# Altium footprint library Con DIN Circular.PcbLib: 41 footprints (part 2 of 3)
Each footprint in its own frame and in the unit in brackets; x right, y up, seen from the top. Pads: shape width x height; smd on the part's side, far side on the other; paste and mask are expansions set on the pad; w line width, h text height; cw(c..) or ccw(c..) is an arc to the next point about the centre after c.
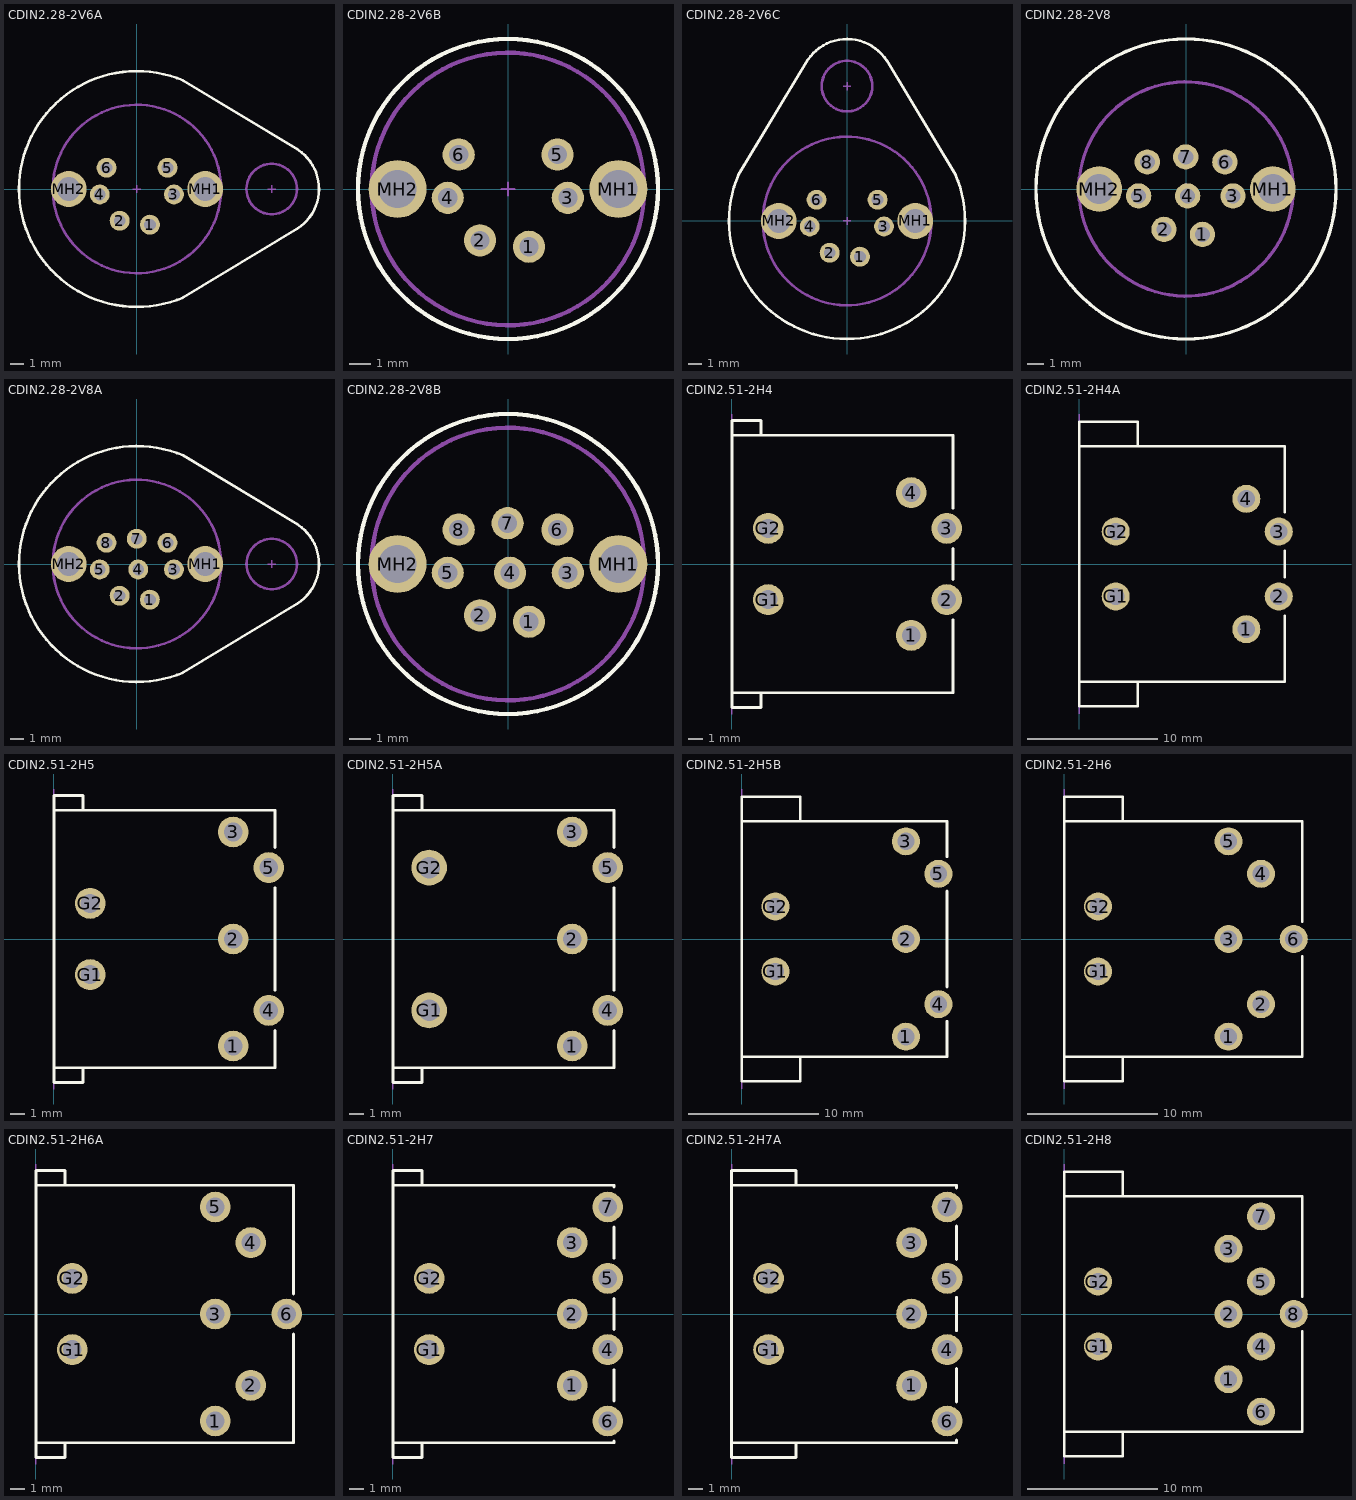
[diagram p1: the footprints below, top view; thin cyan lines are the x and y axes]

## CDIN2.28-2V6A [mm] "Connector; Circular DIN, Thru-Hole; 6 Position; Vertical; Diameter 17.78 mm, Shielded, Front panel grounding, Front panel screw-down"
height 9.52
pads (8):
  round 1.5 hole 0.89: 1(0.975,-2.69) 2(-1.305,-2.39) 3(2.785,-0.41) 4(-2.805,-0.41) 5(2.305,1.6) 6(-2.295,1.6)
  round 2.7 hole 1.78: MH1(5.145,0) MH2(-5.145,0)
Top Overlay:
  lines w0.2: 3.467,8.184 ccw(c-0.005,0) 3.468,-8.183 12.099,-2.982 ccw(c10.172,0) 12.151,2.947 3.467,8.184
Mechanical 1:
  circle w0.2: c-0.005,0 r6.35
  circle w0.2: c10.155,0 r1.905
  lines w0.1: -0.305,0 0.295,0 ; -0.005,-0.3 -0.005,0.3 ; 9.855,-0.02 10.455,0 ; 10.155,-0.3 10.155,0.3
  text "Panel Cut-out" at -2.4,3.8 h0.5
  text "Recommended" at -2.4,4.7 h0.5

## CDIN2.28-2V6B [mm] "Connector; Circular DIN, Thru-Hole; 6 Position; Vertical; Diameter 13.97 mm"
height 9.52
pads (8):
  round 1.5 hole 0.89: 1(0.975,-2.69) 2(-1.305,-2.39) 3(2.785,-0.41) 4(-2.805,-0.41) 5(2.305,1.6) 6(-2.295,1.6)
  round 2.7 hole 1.78: MH1(5.145,0) MH2(-5.145,0)
Top Overlay:
  circle w0.2: c0,0 r6.985
Mechanical 1:
  circle w0.2: c0,0 r6.35
  lines w0.1: -0.3,0 0.3,0 ; 0,-0.3 0,0.3
  text "Panel Cut-out" at -2.4,3.8 h0.5
  text "Recommended" at -2.4,4.7 h0.5

## CDIN2.28-2V6C [mm] "Connector; Circular DIN, Thru-Hole; 6 Position; Vertical; Diameter 17.78 mm, Shielded, Front panel grounding, Front panel screw-down, Special PCB Retention"
height 9.52
pads (8):
  round 1.5 hole 0.89: 1(0.975,-2.69) 2(-1.305,-2.39) 3(2.785,-0.41) 4(-2.805,-0.41) 5(2.305,1.6) 6(-2.295,1.6)
  round 2.7 hole 1.78: MH1(5.145,0) MH2(-5.145,0)
Top Overlay:
  lines w0.2: -8.184,3.467 -2.947,12.151 ; -8.165,3.516 ccw(c0,0) 8.167,3.513 ; -2.947,12.139 cw(c0,10.16) 2.982,12.087 ; 2.982,12.099 8.183,3.468
Mechanical 1:
  circle w0.2: c0,0 r6.35
  circle w0.2: c0,10.16 r1.905
  lines w0.1: -0.3,0 0.3,0 ; -0.3,10.16 0.3,10.16 ; 0,-0.3 0,0.3 ; 0,9.86 0,10.46
  text "Panel Cut-out" at -2.4,3.8 h0.5
  text "Recommended" at -2.4,4.7 h0.5

## CDIN2.28-2V8 [mm] "Connector; Circular DIN, Thru-Hole; 8 Position; Vertical; Diameter 17.78 mm, Shielded"
height 9.52
pads (10):
  round 1.5 hole 0.89: 1(0.975,-2.69) 2(-1.305,-2.39) 3(2.785,-0.41) 4(0.095,-0.41) 5(-2.805,-0.41) 6(2.305,1.6) 7(-0.015,1.9) 8(-2.295,1.6)
  round 2.7 hole 1.78: MH1(5.145,0) MH2(-5.145,0)
Top Overlay:
  circle w0.2: c0,0 r8.89
Mechanical 1:
  circle w0.2: c0,0 r6.35
  lines w0.1: -0.3,0 0.3,0 ; 0,-0.3 0,0.3
  text "Panel Cut-out" at -2.4,3.8 h0.5
  text "Recommended" at -2.4,4.7 h0.5

## CDIN2.28-2V8A [mm] "Connector; Circular DIN, Thru-Hole; 8 Position; Vertical; Diameter 17.78 mm, Shielded, Front panel grounding, Front panel screw-down"
height 9.52
pads (10):
  round 1.5 hole 0.89: 1(0.975,-2.69) 2(-1.305,-2.39) 3(2.785,-0.41) 4(0.095,-0.41) 5(-2.805,-0.41) 6(2.305,1.6) 7(-0.015,1.9) 8(-2.295,1.6)
  round 2.7 hole 1.78: MH1(5.145,0) MH2(-5.145,0)
Top Overlay:
  lines w0.2: 3.472,8.184 ccw(c0,0) 3.473,-8.183 12.099,-2.982 ccw(c10.172,0) 12.151,2.947 3.472,8.184
Mechanical 1:
  circle w0.2: c0,0 r6.35
  circle w0.2: c10.16,0 r1.9
  lines w0.1: -0.3,0 0.3,0 ; 0,-0.3 0,0.3 ; 9.86,0 10.46,0 ; 10.16,-0.3 10.16,0.3
  text "Panel Cut-out" at -2.4,3.8 h0.5
  text "Recommended" at -2.4,4.7 h0.5

## CDIN2.28-2V8B [mm] "Connector; Circular DIN, Thru-Hole; 8 Position; Vertical; Diameter 13.97 mm"
height 9.52
pads (10):
  round 1.5 hole 0.89: 1(0.975,-2.69) 2(-1.305,-2.39) 3(2.785,-0.41) 4(0.095,-0.41) 5(-2.805,-0.41) 6(2.305,1.6) 7(-0.015,1.9) 8(-2.295,1.6)
  round 2.7 hole 1.78: MH1(5.145,0) MH2(-5.145,0)
Top Overlay:
  circle w0.2: c0,0 r6.985
Mechanical 1:
  circle w0.2: c0,0 r6.35
  lines w0.1: -0.3,0 0.3,0 ; 0,-0.3 0,0.3
  text "Recommended" at -2.4,4.7 h0.5
  text "Panel Cut-out" at -2.4,3.8 h0.5

## CDIN2.51-2H4 [mm] "Connector; Circular DIN, Thru-Hole; 4 Position; Right Angle; Pitch 2.49/2.51 mm; Body 18.03 x 15.49 x 20.83 mm (WxTxH)"
height 20.83
pads (6):
  round 2.15 hole 1.32: 1(12.55,-5) 2(15.04,-2.49) 3(15.04,2.49) 4(12.55,5) G1(2.54,-2.49) G2(2.54,2.49)
Top Overlay:
  lines w0.2: 2.03,-9.015 2.03,-10.035 0,-10.035 0,-9.015 ; 2.03,9.015 2.03,10.035 0,10.035 0,9.015 ; 15.49,-3.9 15.49,-9.015 0,-9.015 ; 15.49,-1.08 15.49,1.08 ; 15.49,3.9 15.49,9.015 0,9.015 ; 0,-9.015 0,9.015
Mechanical 1:
  lines w0.1: 0,-10.5 0,10.5
  text "PCB Edge" at 0.6,-8.6 h0.25

## CDIN2.51-2H4A [mm] "Connector; Circular DIN, Thru-Hole; 4 Position; Right Angle; Pitch 2.49/2.51 mm; Body 18.03 x 15.75 x 20.83 mm (WxTxH), Shielded"
height 20.83
pads (6):
  round 2.15 hole 1.32: 1(12.81,-5) 2(15.3,-2.49) 3(15.3,2.49) 4(12.81,5) G1(2.8,-2.49) G2(2.8,2.49)
Top Overlay:
  lines w0.2: 4.5,-9.015 4.5,-10.92 0,-10.92 0,-9.015 ; 4.5,9.015 4.5,10.92 0,10.92 0,9.015 ; 15.75,-3.965 15.75,-9.015 0,-9.015 ; 15.75,-1.015 15.75,1.015 ; 15.75,3.965 15.75,9.015 0,9.015 ; 0,-9.015 0,9.015
Mechanical 1:
  lines w0.1: 0,-11.5 0,11.5
  text "PCB Edge" at 0.6,-8.6 h0.25

## CDIN2.51-2H5 [mm] "Connector; Circular DIN, Thru-Hole; 5 Position; Right Angle; Pitch 2.49/2.51 mm; Body 18.03 x 15.49 x 20.83 mm (WxTxH)"
height 20.83
pads (7):
  round 2.15 hole 1.32: 1(12.55,-7.49) 2(12.55,0) 3(12.55,7.49) 4(15.04,-5) 5(15.04,5) G1(2.54,-2.49) G2(2.54,2.49)
Top Overlay:
  lines w0.2: 2.03,-9.015 2.03,-10.035 0,-10.035 0,-9.015 ; 2.03,9.015 2.03,10.035 0,10.035 0,9.015 ; 15.49,-6.41 15.49,-9.015 0,-9.015 ; 15.49,-3.59 15.49,3.59 ; 15.49,6.41 15.49,9.015 0,9.015 ; 0,-9.015 0,9.015
Mechanical 1:
  lines w0.1: 0,-10.5 0,10.5
  text "PCB Edge" at 0.6,-8.6 h0.25

## CDIN2.51-2H5A [mm] "Connector; Circular DIN, Thru-Hole; 5 Position; Right Angle; Pitch 2.49/2.51 mm; Body 18.03 x 15.49 x 20.83 mm (WxTxH)"
height 20.83
pads (7):
  round 2.15 hole 1.32: 1(12.55,-7.49) 2(12.55,0) 3(12.55,7.49) 4(15.04,-5) 5(15.04,5)
  round 2.5 hole 1.5: G1(2.54,-5) G2(2.54,5)
Top Overlay:
  lines w0.2: 2.03,-9.015 2.03,-10.035 0,-10.035 0,-9.015 ; 2.03,9.015 2.03,10.035 0,10.035 0,9.015 ; 15.49,-6.41 15.49,-9.015 0,-9.015 ; 15.49,-3.59 15.49,3.59 ; 15.49,6.41 15.49,9.015 0,9.015 ; 0,-9.015 0,9.015
Mechanical 1:
  lines w0.1: 0,-10.5 0,10.5
  text "PCB Edge" at 0.6,-8.6 h0.25

## CDIN2.51-2H5B [mm] "Connector; Circular DIN, Thru-Hole; 5 Position; Right Angle; Pitch 2.49/2.51 mm; Body 18.03 x 15.75 x 20.83 mm (WxTxH), Shielded"
height 20.83
pads (7):
  round 2.15 hole 1.32: 1(12.6,-7.49) 2(12.6,0) 3(12.6,7.49) 4(15.09,-5) 5(15.09,5) G1(2.59,-2.49) G2(2.59,2.49)
Top Overlay:
  lines w0.2: 4.5,-9.015 4.5,-10.92 0,-10.92 0,-9.015 ; 4.5,9.015 4.5,10.92 0,10.92 0,9.015 ; 15.75,-6.32 15.75,-9.015 0,-9.015 ; 15.75,-3.68 15.75,3.68 ; 15.75,6.32 15.75,9.015 0,9.015 ; 0,-9.015 0,9.015
Mechanical 1:
  lines w0.1: 0,-11.5 0,11.5
  text "PCB Edge" at 0.6,-8.6 h0.25

## CDIN2.51-2H6 [mm] "Connector; Circular DIN, Thru-Hole; 6 Position; Right Angle; Pitch 2.49/2.51 mm; Body 18.03 x 18.26 x 20.83 mm (WxTxH), Shielded"
height 20.83
pads (8):
  round 2.15 hole 1.32: 1(12.6,-7.49) 2(15.09,-5) 3(12.6,0) 4(15.09,5) 5(12.6,7.49) 6(17.6,0) G1(2.59,-2.49) G2(2.59,2.49)
Top Overlay:
  lines w0.2: 4.5,-9.015 4.5,-10.92 0,-10.92 0,-9.015 ; 4.5,9.015 4.5,10.92 0,10.92 0,9.015 ; 18.26,-1.33 18.26,-9.015 0,-9.015 ; 18.26,1.33 18.26,9.015 0,9.015 ; 0,-9.015 0,9.015
Mechanical 1:
  lines w0.1: 0,-11.5 0,11.5
  text "PCB Edge" at 0.6,-8.6 h0.25

## CDIN2.51-2H6A [mm] "Connector; Circular DIN, Thru-Hole; 6 Position; Right Angle; Pitch 2.49/2.51 mm; Body 18.03 x 18.00 x 20.83 mm (WxTxH)"
height 20.83
pads (8):
  round 2.15 hole 1.32: 1(12.55,-7.49) 2(15.04,-5) 3(12.55,0) 4(15.04,5) 5(12.55,7.49) 6(17.55,0) G1(2.54,-2.49) G2(2.54,2.49)
Top Overlay:
  lines w0.2: 2.03,-9.015 2.03,-10.035 0,-10.035 0,-9.015 ; 2.03,9.015 2.03,10.035 0,10.035 0,9.015 ; 18.03,-1.4 18.03,-9.015 0,-9.015 ; 18.03,1.4 18.03,9.015 0,9.015 ; 0,-9.015 0,9.015
Mechanical 1:
  lines w0.1: 0,-10.5 0,10.5
  text "PCB Edge" at 0.6,-8.6 h0.25

## CDIN2.51-2H7 [mm] "Connector; Circular DIN, Thru-Hole; 7 Position; Right Angle; Pitch 2.49/2.51 mm; Body 18.03 x 15.49 x 20.83 mm (WxTxH)"
height 20.83
pads (9):
  round 2.15 hole 1.32: 1(12.55,-5) 2(12.55,0) 3(12.55,5) 4(15.04,-2.49) 5(15.04,2.49) 6(15.04,-7.49) 7(15.04,7.49) G1(2.54,-2.49) G2(2.54,2.49)
Top Overlay:
  lines w0.2: 2.03,-9.015 2.03,-10.035 0,-10.035 0,-9.015 ; 2.03,9.015 2.03,10.035 0,10.035 0,9.015 ; 15.49,-8.9 15.49,-9.015 0,-9.015 ; 15.49,-6.08 15.49,-3.9 ; 15.49,-1.08 15.49,1.08 ; 15.49,3.9 15.49,6.08 ; 15.49,8.9 15.49,9.015 0,9.015 ; 0,-9.015 0,9.015
Mechanical 1:
  lines w0.1: 0,-10.5 0,10.5
  text "PCB Edge" at 0.6,-8.6 h0.25

## CDIN2.51-2H7A [mm] "Connector; Circular DIN, Thru-Hole; 7 Position; Right Angle; Pitch 2.49/2.51 mm; Body 18.03 x 15.75 x 20.83 mm (WxTxH), Shielded"
height 20.83
pads (9):
  round 2.15 hole 1.32: 1(12.6,-5) 2(12.6,0) 3(12.6,5) 4(15.09,-2.49) 5(15.09,2.49) 6(15.09,-7.49) 7(15.09,7.49) G1(2.59,-2.49) G2(2.59,2.49)
Top Overlay:
  lines w0.2: 4.5,-9.015 4.5,-10.035 0,-10.035 0,-9.015 ; 4.5,9.015 4.5,10.035 0,10.035 0,9.015 ; 15.75,-8.81 15.75,-9.015 0,-9.015 ; 15.75,-6.17 15.75,-3.81 ; 15.75,-1.17 15.75,1.17 ; 15.75,3.81 15.75,6.17 ; 15.75,8.81 15.75,9.015 0,9.015 ; 0,-9.015 0,9.015
Mechanical 1:
  lines w0.1: 0,-10.5 0,10.5
  text "PCB Edge" at 0.6,-8.6 h0.25

## CDIN2.51-2H8 [mm] "Connector; Circular DIN, Thru-Hole; 8 Position; Right Angle; Pitch 2.49/2.51 mm; Body 18.03 x 18.26 x 20.83 mm (WxTxH), Shielded"
height 20.83
pads (10):
  round 2.15 hole 1.32: 1(12.6,-5) 2(12.6,0) 3(12.6,5) 4(15.09,-2.49) 5(15.09,2.49) 6(15.09,-7.49) 7(15.09,7.49) 8(17.6,0) G1(2.59,-2.49) G2(2.59,2.49)
Top Overlay:
  lines w0.2: 4.5,-9.015 4.5,-10.92 0,-10.92 0,-9.015 ; 4.5,9.015 4.5,10.92 0,10.92 0,9.015 ; 18.26,-1.33 18.26,-9.015 0,-9.015 ; 18.26,1.33 18.26,9.015 0,9.015 ; 0,-9.015 0,9.015
Mechanical 1:
  lines w0.1: 0,-11.5 0,11.5
  text "PCB Edge" at 0.6,-8.6 h0.25